# Altium schematic symbol library USB3320C-EZK.SchLib: 2 symbols
Pins are listed as number, name and electrical type; pins without a type are passive.

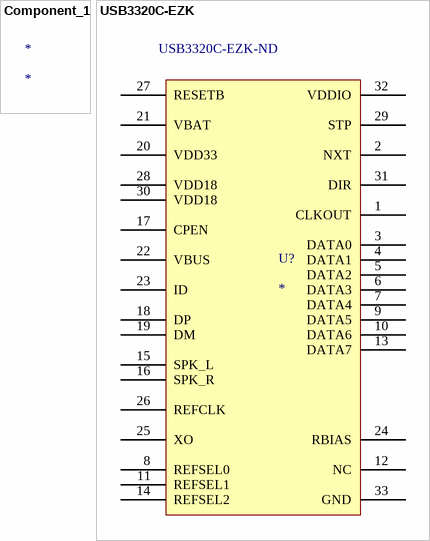
[diagram p0: symbols Component_1 to USB3320C-EZK]

## Component_1
designator *

## USB3320C-EZK
designator U?  Supplier Part Number 1: USB3320C-EZK-ND
USB Interface IC Hi-Speed USB 2.0 ESD +30V Vbus; Manufacturer: Microchip Technology; Manufacturer Part Number: USB3320C-EZK; Number of Transceivers: 1; Data Rate: 480Mbps; ESD Protection: Yes; Max Supply Voltage: 2V; Min Supply Voltage: 1.6V; Operating Supply Current: 5.6mA; Dual Supply Voltage: 3.3V; Frequency: 60MHz; Supplier 1: Digikey; Stock 1: 0; Pricing 1: 1=1.6, 25=1.3288, 100=1.2154 (USD); Case/Package: QFN; Number of Pins: 32; Min Operating Temperature: -40°C; Max Operating Temperature: 85°C; Packaging: Tray; Package Quantity: 490; Number of Ports: 1; Length: 5mm; Height: 0.9mm; Width: 5mm; Radiation Hardening: No; Lead Free: Lead Free; REACH SVHC: No SVHC; ComponentLink1URL: https://datasheet.ciiva.com/6635/filehandler-aspxddocname-en562261-6635126.pdf; ComponentLink1Description: https://datasheet.ciiva.com/6635/filehandler-aspxddocname-en562261-6635126.pdf; ComponentLink2URL: https://datasheet.ciiva.com/26344/651866-da-01-en-usb-2-0-ulpi-phy-usb3320c-ezk-qfn-32-mcp-26344424.pdf; ComponentLink2Description: https://datasheet.ciiva.com/26344/651866-da-01-en-usb-2-0-ulpi-phy-usb3320c-ezk-qfn-32-mcp-26344424.pdf
footprint QFN50P500X500X100_HS-33N_2 (QFN, 32-Leads, Body 5.00x5.00mm, Pitch 0.50mm, Thermal Pad 3.30x3.30mm, IPC Medium Density)
pins: 1 CLKOUT, 2 NXT, 3 DATA0, 4 DATA1, 5 DATA2, 6 DATA3, 7 DATA4, 8 REFSEL0, 9 DATA5, 10 DATA6, 11 REFSEL1, 12 NC, 13 DATA7, 14 REFSEL2, 15 SPK_L, 16 SPK_R, 17 CPEN, 18 DP, 19 DM, 20 VDD33, 21 VBAT, 22 VBUS, 23 ID, 24 RBIAS, 25 XO, 26 REFCLK, 27 RESETB, 28 VDD18, 29 STP, 30 VDD18, 31 DIR, 32 VDDIO, 33 GND